# Altium schematic symbol library Microchip PIC12.SchLib: 457 symbols (part 13 of 15)
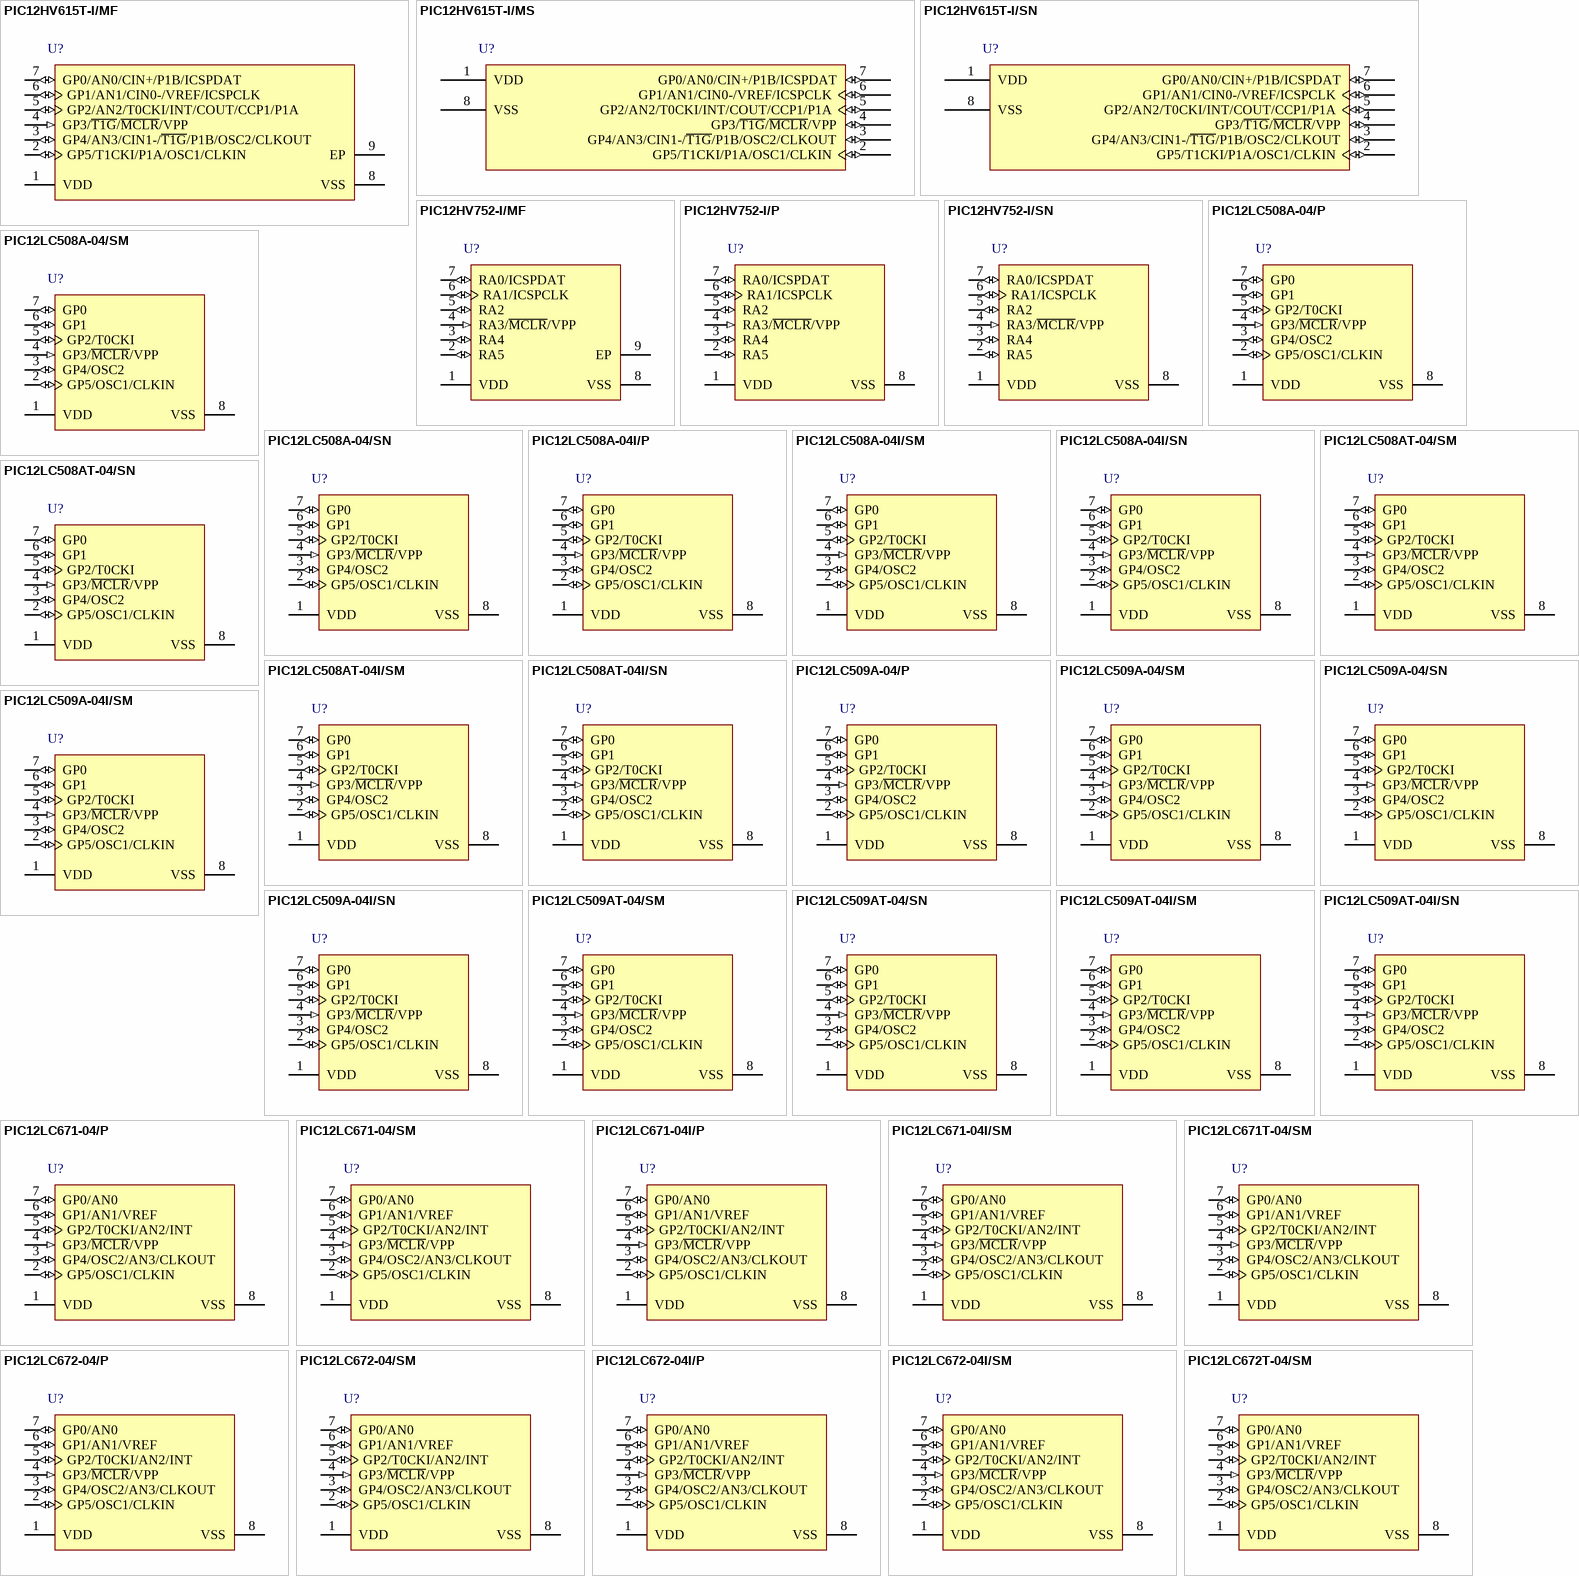
[diagram p27: symbols PIC12HV615T-I/MF to PIC12LC672T-04/SM]

## PIC12LC671T-04/SM
designator U?
8-Bit CMOS Microcontroller with A/D Converter and EEPROM Data Memory, 4 MHz, 5 I/O, 0 to 70 degC, 8-pin SOIC (SM8), Tape and Reel; Manufacturer: Microchip; PartNumber: PIC12LC671T-04/SM; # of A/D Channels: 4; Digital Communication: 0 -UART, 0 -A/E/USART, 0 -SPI, 0 -I2C; I/O Pins: 5; Internal Oscillator: 4 MHz; Memory Type: OTP; Operation Voltage Range: 2.5V - 5.5V; Packing: T/R; Program Memory KBytes: 1.75; Program Memory KWords: 1; RAM: 128; Timers: 1 - 8-bit; DatasheetVersion: Rev. C; PackageVersion: C04-056C, 12/2012; PackageReference: SOIC-SM8; PackageDescription: 8-Lead Plastic Small Outline, 5.26 x 5.25 mm Body, 1.27 mm Pitch; Supplier 1: Digi-Key; Supplier Part Number 1: PIC12LC671T-04/SM-ND; Supplier 2: Mouser; Supplier Part Number 2: 579-12LC671T-04/SM; Max. CPU Speed MHz: 4; Mounting Technology: Surface Mount; ComponentLink1Description: Datasheet; ComponentLink1URL: http://ww1.microchip.com/downloads/en/DeviceDoc/30561C.pdf; ComponentLink2Description: Package Specification; ComponentLink2URL: http://www.microchip.com/stellent/groups/techpub_sg/documents/packagingspec/en012702.pdf; ComponentLink3Description: URL Link1; ComponentLink3URL: Product URL:http://www.microchip.com/datasheet/PIC12C671
footprint MCHP-SOIC-SM8_N (SOIC, 8-Leads, Body 5.26x5.25mm, Pitch 1.27mm, IPC Medium Density)
footprint MCHP-SOIC-SM8_L (SOIC, 8-Leads, Body 5.26x5.25mm, Pitch 1.27mm, IPC High Density)
footprint MCHP-SOIC-SM8_M (SOIC, 8-Leads, Body 5.26x5.25mm, Pitch 1.27mm, IPC Low Density)
pins: 1 VDD (power) "Positive supply for logic and I/O pins.", 2 GP5/OSC1/CLKIN (io), 3 GP4/OSC2/AN3/CLKOUT (io), 4 GP3/~{MCLR}/VPP (in), 5 GP2/T0CKI/AN2/INT (io), 6 GP1/AN1/VREF (io), 7 GP0/AN0 (io), 8 VSS (power) "Ground reference for logic and I/O pins."

## PIC12LC672-04/P
designator U?
8-Bit CMOS Microcontroller with A/D Converter and EEPROM Data Memory, 4 MHz, 5 I/O, 0 to 70 degC, 8-pin PDIP (P8), Tube; Manufacturer: Microchip; PartNumber: PIC12LC672-04/P; # of A/D Channels: 4; Digital Communication: 0 -UART, 0 -A/E/USART, 0 -SPI, 0 -I2C; I/O Pins: 5; Internal Oscillator: 4 MHz; Memory Type: OTP; Operation Voltage Range: 2.5V - 5.5V; Program Memory KBytes: 3.5; Program Memory KWords: 2; RAM: 128; Timers: 1 - 8-bit; DatasheetVersion: Rev. C; PackageVersion: C04-018B, 12/2012; PackageReference: PDIP-P8; PackageDescription: 8-Lead Plastic Dual In-Line, Row Spacing 7.62 mm, 9.5 x 6.6 mm Body, 2.54 mm Pitch; Supplier 1: Digi-Key; Supplier Part Number 1: PIC12LC672-04/P-ND; Supplier 2: Mouser; Supplier Part Number 2: 579-PIC12LC672-04/P; Max. CPU Speed MHz: 4; Packing: TUBE; Mounting Technology: Through Hole; ComponentLink1Description: Datasheet; ComponentLink1URL: http://ww1.microchip.com/downloads/en/DeviceDoc/30561C.pdf; ComponentLink2Description: Package Specification; ComponentLink2URL: http://www.microchip.com/stellent/groups/techpub_sg/documents/packagingspec/en012702.pdf; ComponentLink3Description: URL Link1; ComponentLink3URL: Product URL:http://www.microchip.com/datasheet/PIC12C672
footprint MCHP-PDIP-P8 (PDIP, 8-Leads, Body 9.5x6.604mm, Pitch 2.54mm)
pins: 1 VDD (power) "Positive supply for logic and I/O pins.", 2 GP5/OSC1/CLKIN (io), 3 GP4/OSC2/AN3/CLKOUT (io), 4 GP3/~{MCLR}/VPP (in), 5 GP2/T0CKI/AN2/INT (io), 6 GP1/AN1/VREF (io), 7 GP0/AN0 (io), 8 VSS (power) "Ground reference for logic and I/O pins."

## PIC12LC672-04/SM
designator U?
8-Bit CMOS Microcontroller with A/D Converter and EEPROM Data Memory, 4 MHz, 5 I/O, 0 to 70 degC, 8-pin SOIC (SM8), Tube; Manufacturer: Microchip; PartNumber: PIC12LC672-04/SM; # of A/D Channels: 4; Digital Communication: 0 -UART, 0 -A/E/USART, 0 -SPI, 0 -I2C; I/O Pins: 5; Internal Oscillator: 4 MHz; Memory Type: OTP; Operation Voltage Range: 2.5V - 5.5V; Program Memory KBytes: 3.5; Program Memory KWords: 2; RAM: 128; Timers: 1 - 8-bit; DatasheetVersion: Rev. C; PackageVersion: C04-056C, 12/2012; PackageReference: SOIC-SM8; PackageDescription: 8-Lead Plastic Small Outline, 5.26 x 5.25 mm Body, 1.27 mm Pitch; Supplier 1: Digi-Key; Supplier Part Number 1: PIC12LC672-04/SM-ND; Supplier 2: Mouser; Supplier Part Number 2: 579-PIC12LC672-04/SM; Max. CPU Speed MHz: 4; Packing: TUBE; Mounting Technology: Surface Mount; ComponentLink1Description: Datasheet; ComponentLink1URL: http://ww1.microchip.com/downloads/en/DeviceDoc/30561C.pdf; ComponentLink2Description: Package Specification; ComponentLink2URL: http://www.microchip.com/stellent/groups/techpub_sg/documents/packagingspec/en012702.pdf; ComponentLink3Description: URL Link1; ComponentLink3URL: Product URL:http://www.microchip.com/datasheet/PIC12C672
footprint MCHP-SOIC-SM8_N (SOIC, 8-Leads, Body 5.26x5.25mm, Pitch 1.27mm, IPC Medium Density)
footprint MCHP-SOIC-SM8_L (SOIC, 8-Leads, Body 5.26x5.25mm, Pitch 1.27mm, IPC High Density)
footprint MCHP-SOIC-SM8_M (SOIC, 8-Leads, Body 5.26x5.25mm, Pitch 1.27mm, IPC Low Density)
pins: 1 VDD (power) "Positive supply for logic and I/O pins.", 2 GP5/OSC1/CLKIN (io), 3 GP4/OSC2/AN3/CLKOUT (io), 4 GP3/~{MCLR}/VPP (in), 5 GP2/T0CKI/AN2/INT (io), 6 GP1/AN1/VREF (io), 7 GP0/AN0 (io), 8 VSS (power) "Ground reference for logic and I/O pins."

## PIC12LC672-04I/P
designator U?
8-Bit CMOS Microcontroller with A/D Converter and EEPROM Data Memory, 4 MHz, 5 I/O, -40 to 85 degC, 8-pin PDIP (P8), Tube; Manufacturer: Microchip; PartNumber: PIC12LC672-04I/P; # of A/D Channels: 4; Digital Communication: 0 -UART, 0 -A/E/USART, 0 -SPI, 0 -I2C; I/O Pins: 5; Internal Oscillator: 4 MHz; Memory Type: OTP; Operation Voltage Range: 2.5V - 5.5V; Program Memory KBytes: 3.5; Program Memory KWords: 2; RAM: 128; Timers: 1 - 8-bit; DatasheetVersion: Rev. C; PackageVersion: C04-018B, 12/2012; PackageReference: PDIP-P8; PackageDescription: 8-Lead Plastic Dual In-Line, Row Spacing 7.62 mm, 9.5 x 6.6 mm Body, 2.54 mm Pitch; Supplier 1: Digi-Key; Supplier Part Number 1: PIC12LC672-04I/P-ND; Supplier 2: Mouser; Supplier Part Number 2: 579-PIC12LC672-04I/P; Max. CPU Speed MHz: 4; Packing: TUBE; Mounting Technology: Through Hole; ComponentLink1Description: Datasheet; ComponentLink1URL: http://ww1.microchip.com/downloads/en/DeviceDoc/30561C.pdf; ComponentLink2Description: Package Specification; ComponentLink2URL: http://www.microchip.com/stellent/groups/techpub_sg/documents/packagingspec/en012702.pdf; ComponentLink3Description: URL Link1; ComponentLink3URL: Product URL:http://www.microchip.com/datasheet/PIC12C672
footprint MCHP-PDIP-P8 (PDIP, 8-Leads, Body 9.5x6.604mm, Pitch 2.54mm)
pins: 1 VDD (power) "Positive supply for logic and I/O pins.", 2 GP5/OSC1/CLKIN (io), 3 GP4/OSC2/AN3/CLKOUT (io), 4 GP3/~{MCLR}/VPP (in), 5 GP2/T0CKI/AN2/INT (io), 6 GP1/AN1/VREF (io), 7 GP0/AN0 (io), 8 VSS (power) "Ground reference for logic and I/O pins."

## PIC12LC672-04I/SM
designator U?
8-Bit CMOS Microcontroller with A/D Converter and EEPROM Data Memory, 4 MHz, 5 I/O, -40 to 85 degC, 8-pin SOIC (SM8), Tube; Manufacturer: Microchip; PartNumber: PIC12LC672-04I/SM; # of A/D Channels: 4; Digital Communication: 0 -UART, 0 -A/E/USART, 0 -SPI, 0 -I2C; I/O Pins: 5; Internal Oscillator: 4 MHz; Memory Type: OTP; Operation Voltage Range: 2.5V - 5.5V; Program Memory KBytes: 3.5; Program Memory KWords: 2; RAM: 128; Timers: 1 - 8-bit; DatasheetVersion: Rev. C; PackageVersion: C04-056C, 12/2012; PackageReference: SOIC-SM8; PackageDescription: 8-Lead Plastic Small Outline, 5.26 x 5.25 mm Body, 1.27 mm Pitch; Supplier 1: Digi-Key; Supplier Part Number 1: PIC12LC672-04I/SM-ND; Supplier 2: Farnell; Supplier Part Number 2: 1137341; Supplier 3: Mouser; Supplier Part Number 3: 579-12LC672-04I/SM; Max. CPU Speed MHz: 4; Packing: TUBE; Mounting Technology: Surface Mount; ComponentLink1Description: Datasheet; ComponentLink1URL: http://ww1.microchip.com/downloads/en/DeviceDoc/30561C.pdf; ComponentLink2Description: Package Specification; ComponentLink2URL: http://www.microchip.com/stellent/groups/techpub_sg/documents/packagingspec/en012702.pdf; ComponentLink3Description: URL Link1; ComponentLink3URL: Product URL:http://www.microchip.com/datasheet/PIC12C672
footprint MCHP-SOIC-SM8_N (SOIC, 8-Leads, Body 5.26x5.25mm, Pitch 1.27mm, IPC Medium Density)
footprint MCHP-SOIC-SM8_L (SOIC, 8-Leads, Body 5.26x5.25mm, Pitch 1.27mm, IPC High Density)
footprint MCHP-SOIC-SM8_M (SOIC, 8-Leads, Body 5.26x5.25mm, Pitch 1.27mm, IPC Low Density)
pins: 1 VDD (power) "Positive supply for logic and I/O pins.", 2 GP5/OSC1/CLKIN (io), 3 GP4/OSC2/AN3/CLKOUT (io), 4 GP3/~{MCLR}/VPP (in), 5 GP2/T0CKI/AN2/INT (io), 6 GP1/AN1/VREF (io), 7 GP0/AN0 (io), 8 VSS (power) "Ground reference for logic and I/O pins."

## PIC12LC672T-04/SM
designator U?
8-Bit CMOS Microcontroller with A/D Converter and EEPROM Data Memory, 4 MHz, 5 I/O, 0 to 70 degC, 8-pin SOIC (SM8), Tape and Reel; Manufacturer: Microchip; PartNumber: PIC12LC672T-04/SM; # of A/D Channels: 4; Digital Communication: 0 -UART, 0 -A/E/USART, 0 -SPI, 0 -I2C; I/O Pins: 5; Internal Oscillator: 4 MHz; Memory Type: OTP; Operation Voltage Range: 2.5V - 5.5V; Packing: T/R; Program Memory KBytes: 3.5; Program Memory KWords: 2; RAM: 128; Timers: 1 - 8-bit; DatasheetVersion: Rev. C; PackageVersion: C04-056C, 12/2012; PackageReference: SOIC-SM8; PackageDescription: 8-Lead Plastic Small Outline, 5.26 x 5.25 mm Body, 1.27 mm Pitch; Supplier 1: Digi-Key; Supplier Part Number 1: PIC12LC672T-04/SM-ND; Supplier 2: Mouser; Supplier Part Number 2: 579-12LC672T-04/SM; Max. CPU Speed MHz: 4; Mounting Technology: Surface Mount; ComponentLink1Description: Datasheet; ComponentLink1URL: http://ww1.microchip.com/downloads/en/DeviceDoc/30561C.pdf; ComponentLink2Description: Package Specification; ComponentLink2URL: http://www.microchip.com/stellent/groups/techpub_sg/documents/packagingspec/en012702.pdf; ComponentLink3Description: URL Link1; ComponentLink3URL: Product URL:http://www.microchip.com/datasheet/PIC12C672
footprint MCHP-SOIC-SM8_N (SOIC, 8-Leads, Body 5.26x5.25mm, Pitch 1.27mm, IPC Medium Density)
footprint MCHP-SOIC-SM8_L (SOIC, 8-Leads, Body 5.26x5.25mm, Pitch 1.27mm, IPC High Density)
footprint MCHP-SOIC-SM8_M (SOIC, 8-Leads, Body 5.26x5.25mm, Pitch 1.27mm, IPC Low Density)
pins: 1 VDD (power) "Positive supply for logic and I/O pins.", 2 GP5/OSC1/CLKIN (io), 3 GP4/OSC2/AN3/CLKOUT (io), 4 GP3/~{MCLR}/VPP (in), 5 GP2/T0CKI/AN2/INT (io), 6 GP1/AN1/VREF (io), 7 GP0/AN0 (io), 8 VSS (power) "Ground reference for logic and I/O pins."

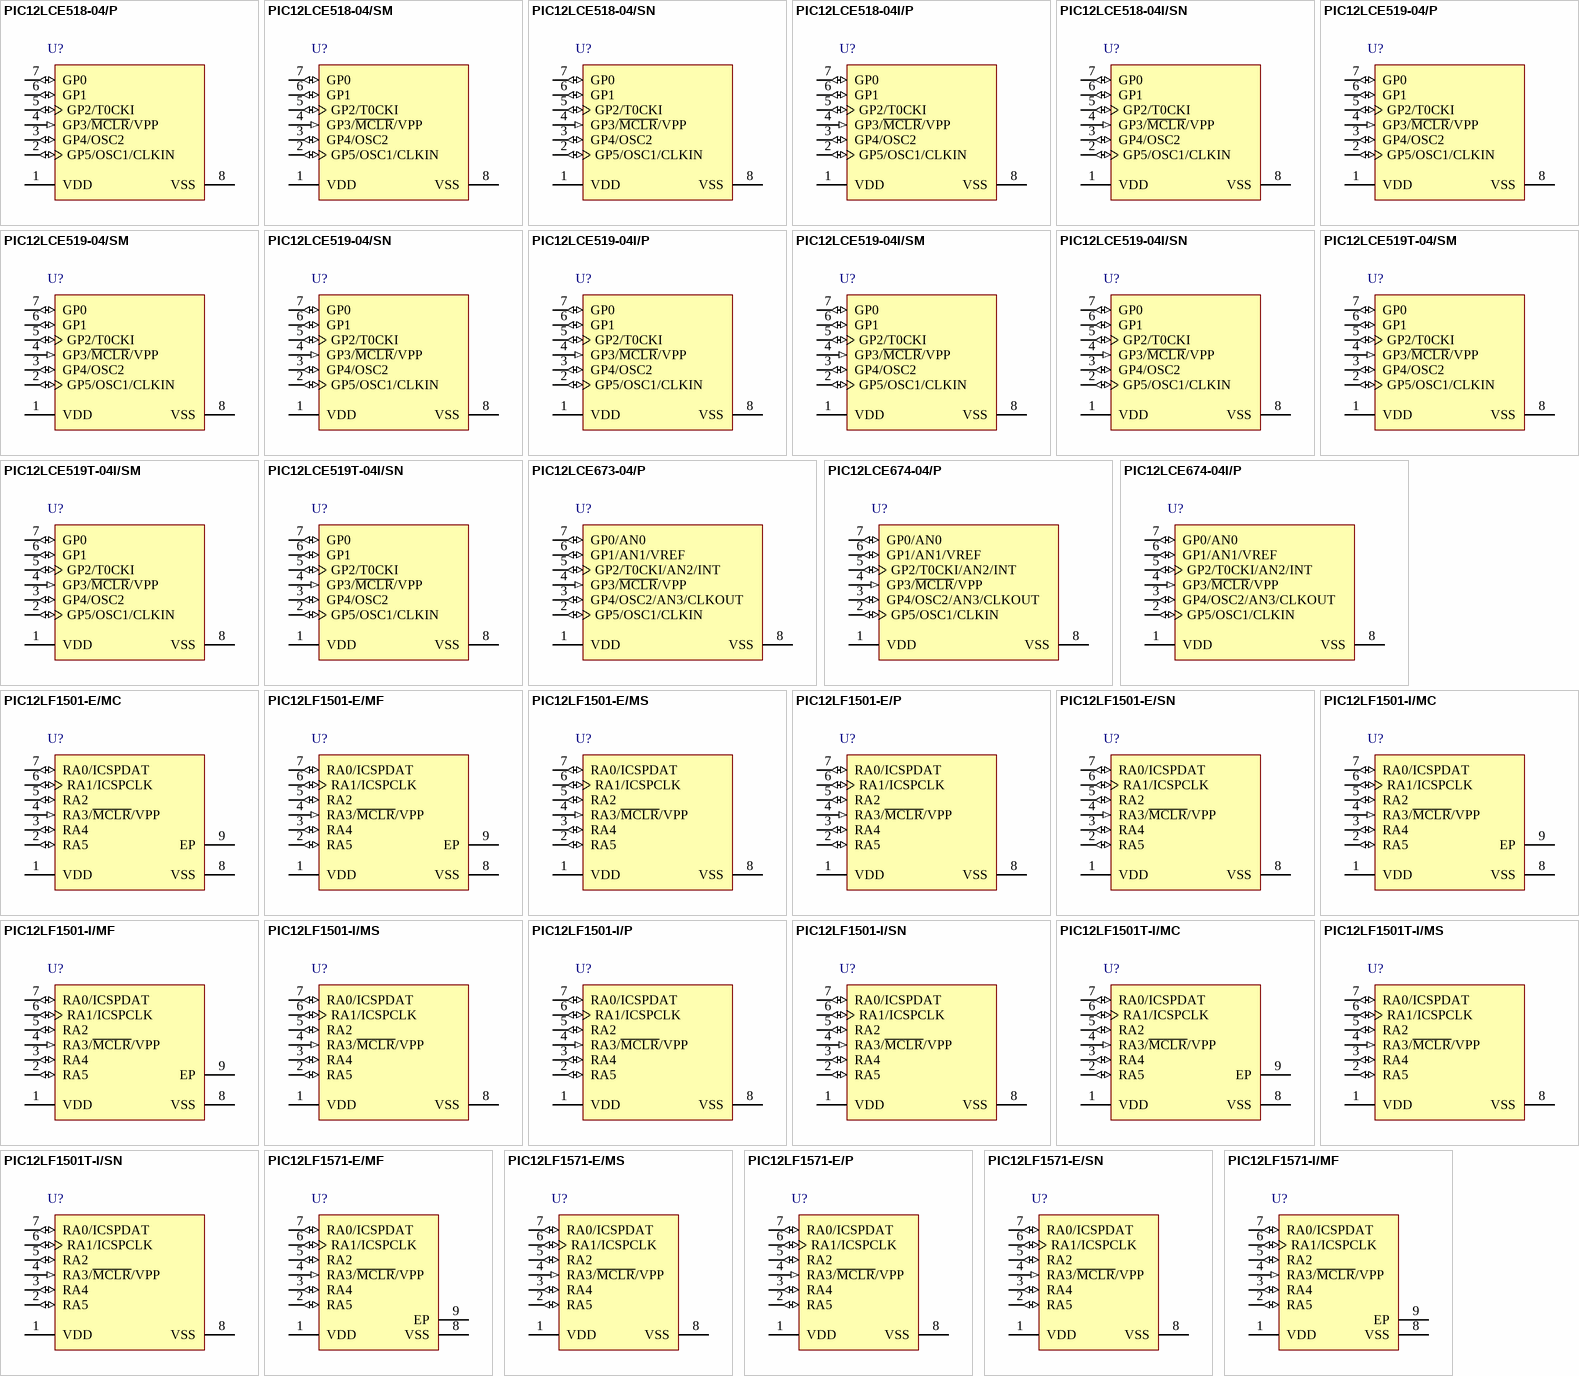
[diagram p13: symbols PIC12LCE518-04/P to PIC12LF1571-I/MF]

## PIC12LCE518-04/P
designator U?
8-Bit CMOS Microcontroller, 4 MHz, 5 I/O, 0 to 70 degC, 8-pin PDIP (P8), Tube; Manufacturer: Microchip; PartNumber: PIC12LCE518-04/P; Digital Communication: 0 -UART, 0 -A/E/USART, 0 -SPI, 0 -I2C; EEPROM Data Memory (bytes): 16; I/O Pins: 5; Internal Oscillator: 4 MHz; Max. CPU Speed MHz: 4; Memory Type: OTP; Operation Voltage Range: 2.5V - 5.5V; Program Memory KBytes: 0.75; Program Memory KWords: 0.5; RAM: 25; Timers: 1 - 8-bit; DatasheetVersion: Rev. E; PackageVersion: C04-018B, 12/2012; PackageReference: PDIP-P8; PackageDescription: 8-Lead Plastic Dual In-Line, Row Spacing 7.62 mm, 9.5 x 6.6 mm Body, 2.54 mm Pitch; Supplier 1: Digi-Key; Supplier Part Number 1: PIC12LCE518-04/P-ND; Supplier 2: Mouser; Supplier Part Number 2: 579-PIC12LCE518-04/P; Packing: TUBE; Mounting Technology: Through Hole; ComponentLink1Description: Datasheet; ComponentLink1URL: http://ww1.microchip.com/downloads/en/DeviceDoc/40139e.pdf; ComponentLink2Description: Package Specification; ComponentLink2URL: http://www.microchip.com/stellent/groups/techpub_sg/documents/packagingspec/en012702.pdf; ComponentLink3Description: URL Link1; ComponentLink3URL: Product URL:http://www.microchip.com/datasheet/PIC12CE518
footprint MCHP-PDIP-P8 (PDIP, 8-Leads, Body 9.5x6.604mm, Pitch 2.54mm)
pins: 1 VDD (power) "Positive supply for logic and I/O pins", 2 GP5/OSC1/CLKIN (io), 3 GP4/OSC2 (io), 4 GP3/~{MCLR}/VPP (in), 5 GP2/T0CKI (io), 6 GP1 (io) "Bi-directional I/O port/ serial programming clock. Can be software programmed for internal weak pull-up and wake-up from SLEEP on pin change. This buffer is a Schmitt Trigger input when used in serial programming mode.", 7 GP0 (io) "Bi-directional I/O port/ serial programming data. Can be software programmed for internal weak pull-up and wake-up from SLEEP on pin change. This buffer is a Schmitt Trigger input when used in serial programming mode.", 8 VSS (power) "Ground reference for logic and I/O pins"

## PIC12LCE518-04/SM
designator U?
8-Bit CMOS Microcontroller, 4 MHz, 5 I/O, 0 to 70 degC, 8-pin SOIC (SM8), Tube; Manufacturer: Microchip; PartNumber: PIC12LCE518-04/SM; Digital Communication: 0 -UART, 0 -A/E/USART, 0 -SPI, 0 -I2C; EEPROM Data Memory (bytes): 16; I/O Pins: 5; Internal Oscillator: 4 MHz; Max. CPU Speed MHz: 4; Memory Type: OTP; Operation Voltage Range: 2.5V - 5.5V; Program Memory KBytes: 0.75; Program Memory KWords: 0.5; RAM: 25; Timers: 1 - 8-bit; DatasheetVersion: Rev. E; PackageVersion: C04-056C, 12/2012; PackageReference: SOIC-SM8; PackageDescription: 8-Lead Plastic Small Outline, 5.26 x 5.25 mm Body, 1.27 mm Pitch; Supplier 1: Digi-Key; Supplier Part Number 1: PIC12LCE518-04/SM-ND; Supplier 2: Mouser; Supplier Part Number 2: 579-12LCE518-04/SM; Packing: TUBE; Mounting Technology: Surface Mount; ComponentLink1Description: Datasheet; ComponentLink1URL: http://ww1.microchip.com/downloads/en/DeviceDoc/40139e.pdf; ComponentLink2Description: Package Specification; ComponentLink2URL: http://www.microchip.com/stellent/groups/techpub_sg/documents/packagingspec/en012702.pdf; ComponentLink3Description: URL Link1; ComponentLink3URL: Product URL:http://www.microchip.com/datasheet/PIC12CE518
footprint MCHP-SOIC-SM8_N (SOIC, 8-Leads, Body 5.26x5.25mm, Pitch 1.27mm, IPC Medium Density)
footprint MCHP-SOIC-SM8_L (SOIC, 8-Leads, Body 5.26x5.25mm, Pitch 1.27mm, IPC High Density)
footprint MCHP-SOIC-SM8_M (SOIC, 8-Leads, Body 5.26x5.25mm, Pitch 1.27mm, IPC Low Density)
pins: 1 VDD (power) "Positive supply for logic and I/O pins", 2 GP5/OSC1/CLKIN (io), 3 GP4/OSC2 (io), 4 GP3/~{MCLR}/VPP (in), 5 GP2/T0CKI (io), 6 GP1 (io) "Bi-directional I/O port/ serial programming clock. Can be software programmed for internal weak pull-up and wake-up from SLEEP on pin change. This buffer is a Schmitt Trigger input when used in serial programming mode.", 7 GP0 (io) "Bi-directional I/O port/ serial programming data. Can be software programmed for internal weak pull-up and wake-up from SLEEP on pin change. This buffer is a Schmitt Trigger input when used in serial programming mode.", 8 VSS (power) "Ground reference for logic and I/O pins"

## PIC12LCE518-04/SN
designator U?
8-Bit CMOS Microcontroller, 4 MHz, 5 I/O, 0 to 70 degC, 8-pin SOIC (SN8), Tube; Manufacturer: Microchip; PartNumber: PIC12LCE518-04/SN; Digital Communication: 0 -UART, 0 -A/E/USART, 0 -SPI, 0 -I2C; EEPROM Data Memory (bytes): 16; I/O Pins: 5; Internal Oscillator: 4 MHz; Max. CPU Speed MHz: 4; Memory Type: OTP; Operation Voltage Range: 2.5V - 5.5V; Program Memory KBytes: 0.75; Program Memory KWords: 0.5; RAM: 25; Timers: 1 - 8-bit; DatasheetVersion: Rev. E; PackageVersion: C04-057C, 12/2012; PackageReference: SOIC-SN8; PackageDescription: 8-Lead Plastic Small Outline, 4.9 x 3.9 mm Body, 1.27 mm Pitch; Supplier 1: Digi-Key; Supplier Part Number 1: PIC12LCE518-04/SN-ND; Supplier 2: Mouser; Supplier Part Number 2: 579-12LCE518-04/SN; Packing: TUBE; Mounting Technology: Surface Mount; ComponentLink1Description: Datasheet; ComponentLink1URL: http://ww1.microchip.com/downloads/en/DeviceDoc/40139e.pdf; ComponentLink2Description: Package Specification; ComponentLink2URL: http://www.microchip.com/stellent/groups/techpub_sg/documents/packagingspec/en012702.pdf; ComponentLink3Description: URL Link1; ComponentLink3URL: Product URL:http://www.microchip.com/datasheet/PIC12CE518
footprint MCHP-SOIC-SN8_N (SOIC, 8-Leads, Body 4.9x3.9mm, Pitch 1.27mm, IPC Medium Density)
footprint MCHP-SOIC-SN8_L (SOIC, 8-Leads, Body 4.9x3.9mm, Pitch 1.27mm, IPC High Density)
footprint MCHP-SOIC-SN8_M (SOIC, 8-Leads, Body 4.9x3.9mm, Pitch 1.27mm, IPC Low Density)
pins: 1 VDD (power) "Positive supply for logic and I/O pins", 2 GP5/OSC1/CLKIN (io), 3 GP4/OSC2 (io), 4 GP3/~{MCLR}/VPP (in), 5 GP2/T0CKI (io), 6 GP1 (io) "Bi-directional I/O port/ serial programming clock. Can be software programmed for internal weak pull-up and wake-up from SLEEP on pin change. This buffer is a Schmitt Trigger input when used in serial programming mode.", 7 GP0 (io) "Bi-directional I/O port/ serial programming data. Can be software programmed for internal weak pull-up and wake-up from SLEEP on pin change. This buffer is a Schmitt Trigger input when used in serial programming mode.", 8 VSS (power) "Ground reference for logic and I/O pins"

## PIC12LCE518-04I/P
designator U?
8-Bit CMOS Microcontroller, 4 MHz, 5 I/O, -40 to 85 degC, 8-pin PDIP (P8), Tube; Manufacturer: Microchip; PartNumber: PIC12LCE518-04I/P; Digital Communication: 0 -UART, 0 -A/E/USART, 0 -SPI, 0 -I2C; EEPROM Data Memory (bytes): 16; I/O Pins: 5; Internal Oscillator: 4 MHz; Max. CPU Speed MHz: 4; Memory Type: OTP; Operation Voltage Range: 2.5V - 5.5V; Program Memory KBytes: 0.75; Program Memory KWords: 0.5; RAM: 25; Timers: 1 - 8-bit; DatasheetVersion: Rev. E; PackageVersion: C04-018B, 12/2012; PackageReference: PDIP-P8; PackageDescription: 8-Lead Plastic Dual In-Line, Row Spacing 7.62 mm, 9.5 x 6.6 mm Body, 2.54 mm Pitch; Supplier 1: Digi-Key; Supplier Part Number 1: PIC12LCE518-04I/P-ND; Supplier 2: Mouser; Supplier Part Number 2: 579-12LCE518-04I/P; Packing: TUBE; Mounting Technology: Through Hole; ComponentLink1Description: Datasheet; ComponentLink1URL: http://ww1.microchip.com/downloads/en/DeviceDoc/40139e.pdf; ComponentLink2Description: Package Specification; ComponentLink2URL: http://www.microchip.com/stellent/groups/techpub_sg/documents/packagingspec/en012702.pdf; ComponentLink3Description: URL Link1; ComponentLink3URL: Product URL:http://www.microchip.com/datasheet/PIC12CE518
footprint MCHP-PDIP-P8 (PDIP, 8-Leads, Body 9.5x6.604mm, Pitch 2.54mm)
pins: 1 VDD (power) "Positive supply for logic and I/O pins", 2 GP5/OSC1/CLKIN (io), 3 GP4/OSC2 (io), 4 GP3/~{MCLR}/VPP (in), 5 GP2/T0CKI (io), 6 GP1 (io) "Bi-directional I/O port/ serial programming clock. Can be software programmed for internal weak pull-up and wake-up from SLEEP on pin change. This buffer is a Schmitt Trigger input when used in serial programming mode.", 7 GP0 (io) "Bi-directional I/O port/ serial programming data. Can be software programmed for internal weak pull-up and wake-up from SLEEP on pin change. This buffer is a Schmitt Trigger input when used in serial programming mode.", 8 VSS (power) "Ground reference for logic and I/O pins"

## PIC12LCE518-04I/SN
designator U?
8-Bit CMOS Microcontroller, 4 MHz, 5 I/O, -40 to 85 degC, 8-pin SOIC (SN8), Tube; Manufacturer: Microchip; PartNumber: PIC12LCE518-04I/SN; Digital Communication: 0 -UART, 0 -A/E/USART, 0 -SPI, 0 -I2C; EEPROM Data Memory (bytes): 16; I/O Pins: 5; Internal Oscillator: 4 MHz; Max. CPU Speed MHz: 4; Memory Type: OTP; Operation Voltage Range: 2.5V - 5.5V; Program Memory KBytes: 0.75; Program Memory KWords: 0.5; RAM: 25; Timers: 1 - 8-bit; DatasheetVersion: Rev. E; PackageVersion: C04-057C, 12/2012; PackageReference: SOIC-SN8; PackageDescription: 8-Lead Plastic Small Outline, 4.9 x 3.9 mm Body, 1.27 mm Pitch; Supplier 1: Digi-Key; Supplier Part Number 1: PIC12LCE518-04ISN-ND; Supplier 2: Mouser; Supplier Part Number 2: 579-12LCE518-04I/SN; Packing: TUBE; Mounting Technology: Surface Mount; ComponentLink1Description: Datasheet; ComponentLink1URL: http://ww1.microchip.com/downloads/en/DeviceDoc/40139e.pdf; ComponentLink2Description: Package Specification; ComponentLink2URL: http://www.microchip.com/stellent/groups/techpub_sg/documents/packagingspec/en012702.pdf; ComponentLink3Description: URL Link1; ComponentLink3URL: Product URL:http://www.microchip.com/datasheet/PIC12CE518
footprint MCHP-SOIC-SN8_N (SOIC, 8-Leads, Body 4.9x3.9mm, Pitch 1.27mm, IPC Medium Density)
footprint MCHP-SOIC-SN8_L (SOIC, 8-Leads, Body 4.9x3.9mm, Pitch 1.27mm, IPC High Density)
footprint MCHP-SOIC-SN8_M (SOIC, 8-Leads, Body 4.9x3.9mm, Pitch 1.27mm, IPC Low Density)
pins: 1 VDD (power) "Positive supply for logic and I/O pins", 2 GP5/OSC1/CLKIN (io), 3 GP4/OSC2 (io), 4 GP3/~{MCLR}/VPP (in), 5 GP2/T0CKI (io), 6 GP1 (io) "Bi-directional I/O port/ serial programming clock. Can be software programmed for internal weak pull-up and wake-up from SLEEP on pin change. This buffer is a Schmitt Trigger input when used in serial programming mode.", 7 GP0 (io) "Bi-directional I/O port/ serial programming data. Can be software programmed for internal weak pull-up and wake-up from SLEEP on pin change. This buffer is a Schmitt Trigger input when used in serial programming mode.", 8 VSS (power) "Ground reference for logic and I/O pins"

## PIC12LCE519-04/P
designator U?
8-Bit CMOS Microcontroller, 4 MHz, 5 I/O, 0 to 70 degC, 8-pin PDIP (P8), Tube; Manufacturer: Microchip; PartNumber: PIC12LCE519-04/P; Digital Communication: 0 -UART, 0 -A/E/USART, 0 -SPI, 0 -I2C; EEPROM Data Memory (bytes): 16; I/O Pins: 5; Max. CPU Speed MHz: 4; Memory Type: OTP; Operation Voltage Range: 2.5V - 5.5V; Program Memory KBytes: 1.5; Program Memory KWords: 1; RAM: 41; Timers: 1 - 8-bit; DatasheetVersion: Rev. E; PackageVersion: C04-018B, 12/2012; PackageReference: PDIP-P8; PackageDescription: 8-Lead Plastic Dual In-Line, Row Spacing 7.62 mm, 9.5 x 6.6 mm Body, 2.54 mm Pitch; Supplier 1: Digi-Key; Supplier Part Number 1: PIC12LCE519-04/P-ND; Supplier 2: Mouser; Supplier Part Number 2: 579-PIC12LCE519-04/P; Packing: TUBE; Mounting Technology: Through Hole; ComponentLink1Description: Datasheet; ComponentLink1URL: http://ww1.microchip.com/downloads/en/DeviceDoc/40139e.pdf; ComponentLink2Description: Package Specification; ComponentLink2URL: http://www.microchip.com/stellent/groups/techpub_sg/documents/packagingspec/en012702.pdf; ComponentLink3Description: URL Link1; ComponentLink3URL: Product URL:http://www.microchip.com/datasheet/PIC12CE519
footprint MCHP-PDIP-P8 (PDIP, 8-Leads, Body 9.5x6.604mm, Pitch 2.54mm)
pins: 1 VDD (power) "Positive supply for logic and I/O pins", 2 GP5/OSC1/CLKIN (io), 3 GP4/OSC2 (io), 4 GP3/~{MCLR}/VPP (in), 5 GP2/T0CKI (io), 6 GP1 (io) "Bi-directional I/O port/ serial programming clock. Can be software programmed for internal weak pull-up and wake-up from SLEEP on pin change. This buffer is a Schmitt Trigger input when used in serial programming mode.", 7 GP0 (io) "Bi-directional I/O port/ serial programming data. Can be software programmed for internal weak pull-up and wake-up from SLEEP on pin change. This buffer is a Schmitt Trigger input when used in serial programming mode.", 8 VSS (power) "Ground reference for logic and I/O pins"

## PIC12LCE519-04/SM
designator U?
8-Bit CMOS Microcontroller, 4 MHz, 5 I/O, 0 to 70 degC, 8-pin SOIC (SM8), Tube; Manufacturer: Microchip; PartNumber: PIC12LCE519-04/SM; Digital Communication: 0 -UART, 0 -A/E/USART, 0 -SPI, 0 -I2C; EEPROM Data Memory (bytes): 16; I/O Pins: 5; Max. CPU Speed MHz: 4; Memory Type: OTP; Operation Voltage Range: 2.5V - 5.5V; Program Memory KBytes: 1.5; Program Memory KWords: 1; RAM: 41; Timers: 1 - 8-bit; DatasheetVersion: Rev. E; PackageVersion: C04-056C, 12/2012; PackageReference: SOIC-SM8; PackageDescription: 8-Lead Plastic Small Outline, 5.26 x 5.25 mm Body, 1.27 mm Pitch; Supplier 1: Digi-Key; Supplier Part Number 1: PIC12LCE519-04/SM-ND; Supplier 2: Mouser; Supplier Part Number 2: 579-12LCE519-04/SM; Packing: TUBE; Mounting Technology: Surface Mount; ComponentLink1Description: Datasheet; ComponentLink1URL: http://ww1.microchip.com/downloads/en/DeviceDoc/40139e.pdf; ComponentLink2Description: Package Specification; ComponentLink2URL: http://www.microchip.com/stellent/groups/techpub_sg/documents/packagingspec/en012702.pdf; ComponentLink3Description: URL Link1; ComponentLink3URL: Product URL:http://www.microchip.com/datasheet/PIC12CE519
footprint MCHP-SOIC-SM8_N (SOIC, 8-Leads, Body 5.26x5.25mm, Pitch 1.27mm, IPC Medium Density)
footprint MCHP-SOIC-SM8_L (SOIC, 8-Leads, Body 5.26x5.25mm, Pitch 1.27mm, IPC High Density)
footprint MCHP-SOIC-SM8_M (SOIC, 8-Leads, Body 5.26x5.25mm, Pitch 1.27mm, IPC Low Density)
pins: 1 VDD (power) "Positive supply for logic and I/O pins", 2 GP5/OSC1/CLKIN (io), 3 GP4/OSC2 (io), 4 GP3/~{MCLR}/VPP (in), 5 GP2/T0CKI (io), 6 GP1 (io) "Bi-directional I/O port/ serial programming clock. Can be software programmed for internal weak pull-up and wake-up from SLEEP on pin change. This buffer is a Schmitt Trigger input when used in serial programming mode.", 7 GP0 (io) "Bi-directional I/O port/ serial programming data. Can be software programmed for internal weak pull-up and wake-up from SLEEP on pin change. This buffer is a Schmitt Trigger input when used in serial programming mode.", 8 VSS (power) "Ground reference for logic and I/O pins"

## PIC12LCE519-04/SN
designator U?
8-Bit CMOS Microcontroller, 4 MHz, 5 I/O, 0 to 70 degC, 8-pin SOIC (SN8), Tube; Manufacturer: Microchip; PartNumber: PIC12LCE519-04/SN; Digital Communication: 0 -UART, 0 -A/E/USART, 0 -SPI, 0 -I2C; EEPROM Data Memory (bytes): 16; I/O Pins: 5; Max. CPU Speed MHz: 4; Memory Type: OTP; Operation Voltage Range: 2.5V - 5.5V; Program Memory KBytes: 1.5; Program Memory KWords: 1; RAM: 41; Timers: 1 - 8-bit; DatasheetVersion: Rev. E; PackageVersion: C04-057C, 12/2012; PackageReference: SOIC-SN8; PackageDescription: 8-Lead Plastic Small Outline, 4.9 x 3.9 mm Body, 1.27 mm Pitch; Supplier 1: Digi-Key; Supplier Part Number 1: PIC12LCE519-04/SN-ND; Supplier 2: Mouser; Supplier Part Number 2: 579-12LCE519-04/SN; Packing: TUBE; Mounting Technology: Surface Mount; ComponentLink1Description: Datasheet; ComponentLink1URL: http://ww1.microchip.com/downloads/en/DeviceDoc/40139e.pdf; ComponentLink2Description: Package Specification; ComponentLink2URL: http://www.microchip.com/stellent/groups/techpub_sg/documents/packagingspec/en012702.pdf; ComponentLink3Description: URL Link1; ComponentLink3URL: Product URL:http://www.microchip.com/datasheet/PIC12CE519
footprint MCHP-SOIC-SN8_N (SOIC, 8-Leads, Body 4.9x3.9mm, Pitch 1.27mm, IPC Medium Density)
footprint MCHP-SOIC-SN8_L (SOIC, 8-Leads, Body 4.9x3.9mm, Pitch 1.27mm, IPC High Density)
footprint MCHP-SOIC-SN8_M (SOIC, 8-Leads, Body 4.9x3.9mm, Pitch 1.27mm, IPC Low Density)
pins: 1 VDD (power) "Positive supply for logic and I/O pins", 2 GP5/OSC1/CLKIN (io), 3 GP4/OSC2 (io), 4 GP3/~{MCLR}/VPP (in), 5 GP2/T0CKI (io), 6 GP1 (io) "Bi-directional I/O port/ serial programming clock. Can be software programmed for internal weak pull-up and wake-up from SLEEP on pin change. This buffer is a Schmitt Trigger input when used in serial programming mode.", 7 GP0 (io) "Bi-directional I/O port/ serial programming data. Can be software programmed for internal weak pull-up and wake-up from SLEEP on pin change. This buffer is a Schmitt Trigger input when used in serial programming mode.", 8 VSS (power) "Ground reference for logic and I/O pins"

## PIC12LCE519-04I/P
designator U?
8-Bit CMOS Microcontroller, 4 MHz, 5 I/O, -40 to 85 degC, 8-pin PDIP (P8), Tube; Manufacturer: Microchip; PartNumber: PIC12LCE519-04I/P; Digital Communication: 0 -UART, 0 -A/E/USART, 0 -SPI, 0 -I2C; EEPROM Data Memory (bytes): 16; I/O Pins: 5; Max. CPU Speed MHz: 4; Memory Type: OTP; Operation Voltage Range: 2.5V - 5.5V; Program Memory KBytes: 1.5; Program Memory KWords: 1; RAM: 41; Timers: 1 - 8-bit; DatasheetVersion: Rev. E; PackageVersion: C04-018B, 12/2012; PackageReference: PDIP-P8; PackageDescription: 8-Lead Plastic Dual In-Line, Row Spacing 7.62 mm, 9.5 x 6.6 mm Body, 2.54 mm Pitch; Supplier 1: Digi-Key; Supplier Part Number 1: PIC12LCE519-04I/P-ND; Supplier 2: Mouser; Supplier Part Number 2: 579-12LCE519-04I/P; Packing: TUBE; Mounting Technology: Through Hole; ComponentLink1Description: Datasheet; ComponentLink1URL: http://ww1.microchip.com/downloads/en/DeviceDoc/40139e.pdf; ComponentLink2Description: Package Specification; ComponentLink2URL: http://www.microchip.com/stellent/groups/techpub_sg/documents/packagingspec/en012702.pdf; ComponentLink3Description: URL Link1; ComponentLink3URL: Product URL:http://www.microchip.com/datasheet/PIC12CE519
footprint MCHP-PDIP-P8 (PDIP, 8-Leads, Body 9.5x6.604mm, Pitch 2.54mm)
pins: 1 VDD (power) "Positive supply for logic and I/O pins", 2 GP5/OSC1/CLKIN (io), 3 GP4/OSC2 (io), 4 GP3/~{MCLR}/VPP (in), 5 GP2/T0CKI (io), 6 GP1 (io) "Bi-directional I/O port/ serial programming clock. Can be software programmed for internal weak pull-up and wake-up from SLEEP on pin change. This buffer is a Schmitt Trigger input when used in serial programming mode.", 7 GP0 (io) "Bi-directional I/O port/ serial programming data. Can be software programmed for internal weak pull-up and wake-up from SLEEP on pin change. This buffer is a Schmitt Trigger input when used in serial programming mode.", 8 VSS (power) "Ground reference for logic and I/O pins"

## PIC12LCE519-04I/SM
designator U?
8-Bit CMOS Microcontroller, 4 MHz, 5 I/O, -40 to 85 degC, 8-pin SOIC (SM8), Tube; Manufacturer: Microchip; PartNumber: PIC12LCE519-04I/SM; Digital Communication: 0 -UART, 0 -A/E/USART, 0 -SPI, 0 -I2C; EEPROM Data Memory (bytes): 16; I/O Pins: 5; Max. CPU Speed MHz: 4; Memory Type: OTP; Operation Voltage Range: 2.5V - 5.5V; Program Memory KBytes: 1.5; Program Memory KWords: 1; RAM: 41; Timers: 1 - 8-bit; DatasheetVersion: Rev. E; PackageVersion: C04-056C, 12/2012; PackageReference: SOIC-SM8; PackageDescription: 8-Lead Plastic Small Outline, 5.26 x 5.25 mm Body, 1.27 mm Pitch; Supplier 1: Digi-Key; Supplier Part Number 1: PIC12LCE519-04ISM-ND; Supplier 2: Mouser; Supplier Part Number 2: 579-12LCE519-04I/SM; Packing: TUBE; Mounting Technology: Surface Mount; ComponentLink1Description: Datasheet; ComponentLink1URL: http://ww1.microchip.com/downloads/en/DeviceDoc/40139e.pdf; ComponentLink2Description: Package Specification; ComponentLink2URL: http://www.microchip.com/stellent/groups/techpub_sg/documents/packagingspec/en012702.pdf; ComponentLink3Description: URL Link1; ComponentLink3URL: Product URL:http://www.microchip.com/datasheet/PIC12CE519
footprint MCHP-SOIC-SM8_N (SOIC, 8-Leads, Body 5.26x5.25mm, Pitch 1.27mm, IPC Medium Density)
footprint MCHP-SOIC-SM8_L (SOIC, 8-Leads, Body 5.26x5.25mm, Pitch 1.27mm, IPC High Density)
footprint MCHP-SOIC-SM8_M (SOIC, 8-Leads, Body 5.26x5.25mm, Pitch 1.27mm, IPC Low Density)
pins: 1 VDD (power) "Positive supply for logic and I/O pins", 2 GP5/OSC1/CLKIN (io), 3 GP4/OSC2 (io), 4 GP3/~{MCLR}/VPP (in), 5 GP2/T0CKI (io), 6 GP1 (io) "Bi-directional I/O port/ serial programming clock. Can be software programmed for internal weak pull-up and wake-up from SLEEP on pin change. This buffer is a Schmitt Trigger input when used in serial programming mode.", 7 GP0 (io) "Bi-directional I/O port/ serial programming data. Can be software programmed for internal weak pull-up and wake-up from SLEEP on pin change. This buffer is a Schmitt Trigger input when used in serial programming mode.", 8 VSS (power) "Ground reference for logic and I/O pins"

## PIC12LCE519-04I/SN
designator U?
8-Bit CMOS Microcontroller, 4 MHz, 5 I/O, -40 to 85 degC, 8-pin SOIC (SN8), Tube; Manufacturer: Microchip; PartNumber: PIC12LCE519-04I/SN; Digital Communication: 0 -UART, 0 -A/E/USART, 0 -SPI, 0 -I2C; EEPROM Data Memory (bytes): 16; I/O Pins: 5; Max. CPU Speed MHz: 4; Memory Type: OTP; Operation Voltage Range: 2.5V - 5.5V; Program Memory KBytes: 1.5; Program Memory KWords: 1; RAM: 41; Timers: 1 - 8-bit; DatasheetVersion: Rev. E; PackageVersion: C04-057C, 12/2012; PackageReference: SOIC-SN8; PackageDescription: 8-Lead Plastic Small Outline, 4.9 x 3.9 mm Body, 1.27 mm Pitch; Supplier 1: Digi-Key; Supplier Part Number 1: PIC12LCE519-04ISN-ND; Supplier 2: Mouser; Supplier Part Number 2: 579-12LCE519-04I/SN; Packing: TUBE; Mounting Technology: Surface Mount; ComponentLink1Description: Datasheet; ComponentLink1URL: http://ww1.microchip.com/downloads/en/DeviceDoc/40139e.pdf; ComponentLink2Description: Package Specification; ComponentLink2URL: http://www.microchip.com/stellent/groups/techpub_sg/documents/packagingspec/en012702.pdf; ComponentLink3Description: URL Link1; ComponentLink3URL: Product URL:http://www.microchip.com/datasheet/PIC12CE519
footprint MCHP-SOIC-SN8_N (SOIC, 8-Leads, Body 4.9x3.9mm, Pitch 1.27mm, IPC Medium Density)
footprint MCHP-SOIC-SN8_L (SOIC, 8-Leads, Body 4.9x3.9mm, Pitch 1.27mm, IPC High Density)
footprint MCHP-SOIC-SN8_M (SOIC, 8-Leads, Body 4.9x3.9mm, Pitch 1.27mm, IPC Low Density)
pins: 1 VDD (power) "Positive supply for logic and I/O pins", 2 GP5/OSC1/CLKIN (io), 3 GP4/OSC2 (io), 4 GP3/~{MCLR}/VPP (in), 5 GP2/T0CKI (io), 6 GP1 (io) "Bi-directional I/O port/ serial programming clock. Can be software programmed for internal weak pull-up and wake-up from SLEEP on pin change. This buffer is a Schmitt Trigger input when used in serial programming mode.", 7 GP0 (io) "Bi-directional I/O port/ serial programming data. Can be software programmed for internal weak pull-up and wake-up from SLEEP on pin change. This buffer is a Schmitt Trigger input when used in serial programming mode.", 8 VSS (power) "Ground reference for logic and I/O pins"

## PIC12LCE519T-04/SM
designator U?
8-Bit CMOS Microcontroller, 4 MHz, 5 I/O, 0 to 70 degC, 8-pin SOIC (SM8), Tape and Reel; Manufacturer: Microchip; PartNumber: PIC12LCE519T-04/SM; Digital Communication: 0 -UART, 0 -A/E/USART, 0 -SPI, 0 -I2C; EEPROM Data Memory (bytes): 16; I/O Pins: 5; Max. CPU Speed MHz: 4; Memory Type: OTP; Operation Voltage Range: 2.5V - 5.5V; Packing: T/R; Program Memory KBytes: 1.5; Program Memory KWords: 1; RAM: 41; Timers: 1 - 8-bit; DatasheetVersion: Rev. E; PackageVersion: C04-056C, 12/2012; PackageReference: SOIC-SM8; PackageDescription: 8-Lead Plastic Small Outline, 5.26 x 5.25 mm Body, 1.27 mm Pitch; Supplier 1: Digi-Key; Supplier Part Number 1: PIC12LCE519T-04SM-ND; Supplier 2: Mouser; Supplier Part Number 2: 579-12LCE519T-04/SM; Mounting Technology: Surface Mount; ComponentLink1Description: Datasheet; ComponentLink1URL: http://ww1.microchip.com/downloads/en/DeviceDoc/40139e.pdf; ComponentLink2Description: Package Specification; ComponentLink2URL: http://www.microchip.com/stellent/groups/techpub_sg/documents/packagingspec/en012702.pdf; ComponentLink3Description: URL Link1; ComponentLink3URL: Product URL:http://www.microchip.com/datasheet/PIC12CE519
footprint MCHP-SOIC-SM8_N (SOIC, 8-Leads, Body 5.26x5.25mm, Pitch 1.27mm, IPC Medium Density)
footprint MCHP-SOIC-SM8_L (SOIC, 8-Leads, Body 5.26x5.25mm, Pitch 1.27mm, IPC High Density)
footprint MCHP-SOIC-SM8_M (SOIC, 8-Leads, Body 5.26x5.25mm, Pitch 1.27mm, IPC Low Density)
pins: 1 VDD (power) "Positive supply for logic and I/O pins", 2 GP5/OSC1/CLKIN (io), 3 GP4/OSC2 (io), 4 GP3/~{MCLR}/VPP (in), 5 GP2/T0CKI (io), 6 GP1 (io) "Bi-directional I/O port/ serial programming clock. Can be software programmed for internal weak pull-up and wake-up from SLEEP on pin change. This buffer is a Schmitt Trigger input when used in serial programming mode.", 7 GP0 (io) "Bi-directional I/O port/ serial programming data. Can be software programmed for internal weak pull-up and wake-up from SLEEP on pin change. This buffer is a Schmitt Trigger input when used in serial programming mode.", 8 VSS (power) "Ground reference for logic and I/O pins"

## PIC12LCE519T-04I/SM
designator U?
8-Bit CMOS Microcontroller, 4 MHz, 5 I/O, -40 to 85 degC, 8-pin SOIC (SM8), Tape and Reel; Manufacturer: Microchip; PartNumber: PIC12LCE519T-04I/SM; Digital Communication: 0 -UART, 0 -A/E/USART, 0 -SPI, 0 -I2C; EEPROM Data Memory (bytes): 16; I/O Pins: 5; Max. CPU Speed MHz: 4; Memory Type: OTP; Operation Voltage Range: 2.5V - 5.5V; Packing: T/R; Program Memory KBytes: 1.5; Program Memory KWords: 1; RAM: 41; Timers: 1 - 8-bit; DatasheetVersion: Rev. E; PackageVersion: C04-056C, 12/2012; PackageReference: SOIC-SM8; PackageDescription: 8-Lead Plastic Small Outline, 5.26 x 5.25 mm Body, 1.27 mm Pitch; Supplier 1: Digi-Key; Supplier Part Number 1: PIC12LCE519T04ISM-ND; Supplier 2: Mouser; Supplier Part Number 2: 579-12LCE519T-04I/SM; Mounting Technology: Surface Mount; ComponentLink1Description: Datasheet; ComponentLink1URL: http://ww1.microchip.com/downloads/en/DeviceDoc/40139e.pdf; ComponentLink2Description: Package Specification; ComponentLink2URL: http://www.microchip.com/stellent/groups/techpub_sg/documents/packagingspec/en012702.pdf; ComponentLink3Description: URL Link1; ComponentLink3URL: Product URL:http://www.microchip.com/datasheet/PIC12CE519
footprint MCHP-SOIC-SM8_N (SOIC, 8-Leads, Body 5.26x5.25mm, Pitch 1.27mm, IPC Medium Density)
footprint MCHP-SOIC-SM8_L (SOIC, 8-Leads, Body 5.26x5.25mm, Pitch 1.27mm, IPC High Density)
footprint MCHP-SOIC-SM8_M (SOIC, 8-Leads, Body 5.26x5.25mm, Pitch 1.27mm, IPC Low Density)
pins: 1 VDD (power) "Positive supply for logic and I/O pins", 2 GP5/OSC1/CLKIN (io), 3 GP4/OSC2 (io), 4 GP3/~{MCLR}/VPP (in), 5 GP2/T0CKI (io), 6 GP1 (io) "Bi-directional I/O port/ serial programming clock. Can be software programmed for internal weak pull-up and wake-up from SLEEP on pin change. This buffer is a Schmitt Trigger input when used in serial programming mode.", 7 GP0 (io) "Bi-directional I/O port/ serial programming data. Can be software programmed for internal weak pull-up and wake-up from SLEEP on pin change. This buffer is a Schmitt Trigger input when used in serial programming mode.", 8 VSS (power) "Ground reference for logic and I/O pins"

## PIC12LCE519T-04I/SN
designator U?
8-Bit CMOS Microcontroller, 4 MHz, 5 I/O, -40 to 85 degC, 8-pin SOIC (SN8), Tape and Reel; Manufacturer: Microchip; PartNumber: PIC12LCE519T-04I/SN; Digital Communication: 0 -UART, 0 -A/E/USART, 0 -SPI, 0 -I2C; EEPROM Data Memory (bytes): 16; I/O Pins: 5; Max. CPU Speed MHz: 4; Memory Type: OTP; Operation Voltage Range: 2.5V - 5.5V; Packing: T/R; Program Memory KBytes: 1.5; Program Memory KWords: 1; RAM: 41; Timers: 1 - 8-bit; DatasheetVersion: Rev. E; PackageVersion: C04-057C, 12/2012; PackageReference: SOIC-SN8; PackageDescription: 8-Lead Plastic Small Outline, 4.9 x 3.9 mm Body, 1.27 mm Pitch; Supplier 1: Digi-Key; Supplier Part Number 1: PIC12LCE519T04ISN-ND; Supplier 2: Mouser; Supplier Part Number 2: 579-12LCE519T-04I/SN; Mounting Technology: Surface Mount; ComponentLink1Description: Datasheet; ComponentLink1URL: http://ww1.microchip.com/downloads/en/DeviceDoc/40139e.pdf; ComponentLink2Description: Package Specification; ComponentLink2URL: http://www.microchip.com/stellent/groups/techpub_sg/documents/packagingspec/en012702.pdf; ComponentLink3Description: URL Link1; ComponentLink3URL: Product URL:http://www.microchip.com/datasheet/PIC12CE519
footprint MCHP-SOIC-SN8_N (SOIC, 8-Leads, Body 4.9x3.9mm, Pitch 1.27mm, IPC Medium Density)
footprint MCHP-SOIC-SN8_L (SOIC, 8-Leads, Body 4.9x3.9mm, Pitch 1.27mm, IPC High Density)
footprint MCHP-SOIC-SN8_M (SOIC, 8-Leads, Body 4.9x3.9mm, Pitch 1.27mm, IPC Low Density)
pins: 1 VDD (power) "Positive supply for logic and I/O pins", 2 GP5/OSC1/CLKIN (io), 3 GP4/OSC2 (io), 4 GP3/~{MCLR}/VPP (in), 5 GP2/T0CKI (io), 6 GP1 (io) "Bi-directional I/O port/ serial programming clock. Can be software programmed for internal weak pull-up and wake-up from SLEEP on pin change. This buffer is a Schmitt Trigger input when used in serial programming mode.", 7 GP0 (io) "Bi-directional I/O port/ serial programming data. Can be software programmed for internal weak pull-up and wake-up from SLEEP on pin change. This buffer is a Schmitt Trigger input when used in serial programming mode.", 8 VSS (power) "Ground reference for logic and I/O pins"

## PIC12LCE673-04/P
designator U?
8-Bit CMOS Microcontroller with A/D Converter and EEPROM Data Memory, 4 MHz, 5 I/O, 0 to 70 degC, 8-pin PDIP (P8), Tube; Manufacturer: Microchip; PartNumber: PIC12LCE673-04/P; # of A/D Channels: 4; Digital Communication: 0 -UART, 0 -A/E/USART, 0 -SPI, 0 -I2C; EEPROM Data Memory (bytes): 16; I/O Pins: 5; Internal Oscillator: 4 MHz; Memory Type: OTP; Operation Voltage Range: 2.5V - 5.5V; Program Memory KBytes: 1.75; Program Memory KWords: 1; RAM: 128; Timers: 1 - 8-bit, 0 - 16-bit, 0 - 32-bit; DatasheetVersion: Rev. C; PackageVersion: C04-018B, 12/2012; PackageReference: PDIP-P8; PackageDescription: 8-Lead Plastic Dual In-Line, Row Spacing 7.62 mm, 9.5 x 6.6 mm Body, 2.54 mm Pitch; Supplier 1: Digi-Key; Supplier Part Number 1: PIC12LCE673-04/P-ND; Supplier 2: Mouser; Supplier Part Number 2: 579-PIC12LCE673-04/P; Max. CPU Speed MHz: 4; Packing: TUBE; Mounting Technology: Through Hole; ComponentLink1Description: Datasheet; ComponentLink1URL: http://ww1.microchip.com/downloads/en/DeviceDoc/30561C.pdf; ComponentLink2Description: Package Specification; ComponentLink2URL: http://www.microchip.com/stellent/groups/techpub_sg/documents/packagingspec/en012702.pdf; ComponentLink3Description: URL Link1; ComponentLink3URL: Product URL:http://www.microchip.com/datasheet/PIC12CE673
footprint MCHP-PDIP-P8 (PDIP, 8-Leads, Body 9.5x6.604mm, Pitch 2.54mm)
pins: 1 VDD (power) "Positive supply for logic and I/O pins.", 2 GP5/OSC1/CLKIN (io), 3 GP4/OSC2/AN3/CLKOUT (io), 4 GP3/~{MCLR}/VPP (in), 5 GP2/T0CKI/AN2/INT (io), 6 GP1/AN1/VREF (io), 7 GP0/AN0 (io), 8 VSS (power) "Ground reference for logic and I/O pins."

## PIC12LCE674-04/P
designator U?
8-Bit CMOS Microcontroller with A/D Converter and EEPROM Data Memory, 4 MHz, 5 I/O, 0 to 70 degC, 8-pin PDIP (P8), Tube; Manufacturer: Microchip; PartNumber: PIC12LCE674-04/P; # of A/D Channels: 4; Digital Communication: 0 -UART, 0 -A/E/USART, 0 -SPI, 0 -I2C; EEPROM Data Memory (bytes): 16; I/O Pins: 5; Internal Oscillator: 4 MHz; Memory Type: OTP; Operation Voltage Range: 3V - 5.5V; Program Memory KBytes: 3.5; Program Memory KWords: 2; RAM: 128; Timers: 1 - 8-bit, 0 - 16-bit, 0 - 32-bit; DatasheetVersion: Rev. C; PackageVersion: C04-018B, 12/2012; PackageReference: PDIP-P8; PackageDescription: 8-Lead Plastic Dual In-Line, Row Spacing 7.62 mm, 9.5 x 6.6 mm Body, 2.54 mm Pitch; Supplier 1: Digi-Key; Supplier Part Number 1: PIC12LCE674-04/P-ND; Supplier 2: Mouser; Supplier Part Number 2: 579-PIC12LCE674-04/P; Max. CPU Speed MHz: 4; Packing: TUBE; Mounting Technology: Through Hole; ComponentLink1Description: Datasheet; ComponentLink1URL: http://ww1.microchip.com/downloads/en/DeviceDoc/30561C.pdf; ComponentLink2Description: Package Specification; ComponentLink2URL: http://www.microchip.com/stellent/groups/techpub_sg/documents/packagingspec/en012702.pdf; ComponentLink3Description: URL Link1; ComponentLink3URL: Product URL:http://www.microchip.com/datasheet/PIC12CE674
footprint MCHP-PDIP-P8 (PDIP, 8-Leads, Body 9.5x6.604mm, Pitch 2.54mm)
pins: 1 VDD (power) "Positive supply for logic and I/O pins.", 2 GP5/OSC1/CLKIN (io), 3 GP4/OSC2/AN3/CLKOUT (io), 4 GP3/~{MCLR}/VPP (in), 5 GP2/T0CKI/AN2/INT (io), 6 GP1/AN1/VREF (io), 7 GP0/AN0 (io), 8 VSS (power) "Ground reference for logic and I/O pins."

## PIC12LCE674-04I/P
designator U?
8-Bit CMOS Microcontroller with A/D Converter and EEPROM Data Memory, 4 MHz, 5 I/O, -40 to 85 degC, 8-pin PDIP (P8), Tube; Manufacturer: Microchip; PartNumber: PIC12LCE674-04I/P; # of A/D Channels: 4; Digital Communication: 0 -UART, 0 -A/E/USART, 0 -SPI, 0 -I2C; EEPROM Data Memory (bytes): 16; I/O Pins: 5; Internal Oscillator: 4 MHz; Memory Type: OTP; Operation Voltage Range: 2.5V - 5.5V; Program Memory KBytes: 3.5; Program Memory KWords: 2; RAM: 128; Timers: 1 - 8-bit, 0 - 16-bit, 0 - 32-bit; DatasheetVersion: Rev. C; PackageVersion: C04-018B, 12/2012; PackageReference: PDIP-P8; PackageDescription: 8-Lead Plastic Dual In-Line, Row Spacing 7.62 mm, 9.5 x 6.6 mm Body, 2.54 mm Pitch; Supplier 1: Digi-Key; Supplier Part Number 1: PIC12LCE674-04I/P-ND; Supplier 2: Mouser; Supplier Part Number 2: 579-12LCE674-04I/P; Max. CPU Speed MHz: 4; Packing: TUBE; Mounting Technology: Through Hole; ComponentLink1Description: Datasheet; ComponentLink1URL: http://ww1.microchip.com/downloads/en/DeviceDoc/30561C.pdf; ComponentLink2Description: Package Specification; ComponentLink2URL: http://www.microchip.com/stellent/groups/techpub_sg/documents/packagingspec/en012702.pdf; ComponentLink3Description: URL Link1; ComponentLink3URL: Product URL:http://www.microchip.com/datasheet/PIC12CE674
footprint MCHP-PDIP-P8 (PDIP, 8-Leads, Body 9.5x6.604mm, Pitch 2.54mm)
pins: 1 VDD (power) "Positive supply for logic and I/O pins.", 2 GP5/OSC1/CLKIN (io), 3 GP4/OSC2/AN3/CLKOUT (io), 4 GP3/~{MCLR}/VPP (in), 5 GP2/T0CKI/AN2/INT (io), 6 GP1/AN1/VREF (io), 7 GP0/AN0 (io), 8 VSS (power) "Ground reference for logic and I/O pins."

## PIC12LF1501-E/MC
designator U?
Flash, 8-Bit Microcontroller, 20 MHz, 5 I/O, -40 to 125 degC, 8-pin DFN (MC8), Tube; Manufacturer: Microchip; PartNumber: PIC12LF1501-E/MC; # of A/D Channels: 4; I/O Pins: 5; Internal Oscillator: 16 MHz, 31 kHz; Max. CPU Speed MHz: 20; Operation Voltage Range: 1.8V - 3.6V; Program Memory KBytes: 1.75; Program Memory KWords: 1; RAM: 64; Timers: 2 - 8-bit, 1 - 16-bit; DatasheetVersion: Rev. A; PackageVersion: C04-123C, 12/2012; PackageReference: DFN-MC8; PackageDescription: 8-Lead Plastic Dual Flat, 2 x 3 mm Body, 0.5 mm Pitch; Supplier 1: Digi-Key; Supplier Part Number 1: PIC12LF1501-E/MC-ND; Supplier 2: Farnell; Supplier Part Number 2: 2084987; Supplier 3: Newark; Supplier Part Number 3: 73T1184; Supplier 4: Mouser; Supplier Part Number 4: 579-PC12LF1501EMC; Memory Type: Flash; Packing: TUBE; Mounting Technology: Surface Mount; ComponentLink1Description: Datasheet; ComponentLink1URL: http://ww1.microchip.com/downloads/en/DeviceDoc/41615A.pdf; ComponentLink2Description: Package Specification; ComponentLink2URL: http://www.microchip.com/stellent/groups/techpub_sg/documents/packagingspec/en012702.pdf; ComponentLink3Description: URL Link1; ComponentLink3URL: Product URL:http://www.microchip.com/datasheet/PIC12F1501
footprint MCHP-DFN-MC8_V (SON, 8-Leads, Body 3x2mm, Pitch 0.5mm, Thermal Pad 1.45x1.75mm)
pins: 1 VDD (power) "Positive supply.", 2 RA5 (io), 3 RA4 (io), 4 RA3/~{MCLR}/VPP (in), 5 RA2 (io), 6 RA1/ICSPCLK (io), 7 RA0/ICSPDAT (io), 8 VSS (power) "Ground reference.", 9 EP

## PIC12LF1501-E/MF
designator U?
Flash, 8-Bit Microcontroller, 20 MHz, 5 I/O, -40 to 125 degC, 8-pin DFN (MF8), Tube; Manufacturer: Microchip; PartNumber: PIC12LF1501-E/MF; # of A/D Channels: 4; I/O Pins: 5; Internal Oscillator: 16 MHz, 31 kHz; Max. CPU Speed MHz: 20; Operation Voltage Range: 1.8V - 3.6V; Program Memory KBytes: 1.75; Program Memory KWords: 1; RAM: 64; Timers: 2 - 8-bit, 1 - 16-bit; DatasheetVersion: Rev. A; PackageVersion: C04-062C, 12/2012; PackageReference: DFN-MF8; PackageDescription: 8-Lead Plastic Dual Flat, No Lead Package, 3 x 3 mm Body, 0.65 mm Pitch; Supplier 1: Digi-Key; Supplier Part Number 1: PIC12LF1501-E/MF-ND; Supplier 2: Mouser; Supplier Part Number 2: 579-PIC12LF1501-E/MF; Memory Type: Flash; Packing: TUBE; Mounting Technology: Surface Mount; ComponentLink1Description: Datasheet; ComponentLink1URL: http://ww1.microchip.com/downloads/en/DeviceDoc/41615A.pdf; ComponentLink2Description: Package Specification; ComponentLink2URL: http://www.microchip.com/stellent/groups/techpub_sg/documents/packagingspec/en012702.pdf; ComponentLink3Description: URL Link1; ComponentLink3URL: Product URL:http://www.microchip.com/datasheet/PIC12F1501
footprint MCHP-DFN-MF8_V (SON, 8-Leads, Body 3x3mm, Pitch 0.65mm, Thermal Pad 2.4x1.55mm)
pins: 1 VDD (power) "Positive supply.", 2 RA5 (io), 3 RA4 (io), 4 RA3/~{MCLR}/VPP (in), 5 RA2 (io), 6 RA1/ICSPCLK (io), 7 RA0/ICSPDAT (io), 8 VSS (power) "Ground reference.", 9 EP

## PIC12LF1501-E/MS
designator U?
Flash, 8-Bit Microcontroller, 20 MHz, 5 I/O, -40 to 125 degC, 8-pin MSOP (MS8), Tube; Manufacturer: Microchip; PartNumber: PIC12LF1501-E/MS; # of A/D Channels: 4; I/O Pins: 5; Internal Oscillator: 16 MHz, 31 kHz; Max. CPU Speed MHz: 20; Operation Voltage Range: 1.8V - 3.6V; Program Memory KBytes: 1.75; Program Memory KWords: 1; RAM: 64; Timers: 2 - 8-bit, 1 - 16-bit; DatasheetVersion: Rev. A; PackageVersion: C04-111C, 12/2012; PackageReference: MSOP-MS8; PackageDescription: 8-Lead Plastic Micro Small Outline Package, 3 x 3 mm Body, 0.65 mm Pitch; Supplier 1: Digi-Key; Supplier Part Number 1: PIC12LF1501-E/MS-ND; Supplier 2: Farnell; Supplier Part Number 2: 2084988; Supplier 3: Newark; Supplier Part Number 3: 66T9116; Supplier 4: Mouser; Supplier Part Number 4: 579-PIC12LF1501-E/MS; Memory Type: Flash; Packing: TUBE; Mounting Technology: Surface Mount; ComponentLink1Description: Datasheet; ComponentLink1URL: http://ww1.microchip.com/downloads/en/DeviceDoc/41615A.pdf; ComponentLink2Description: Package Specification; ComponentLink2URL: http://www.microchip.com/stellent/groups/techpub_sg/documents/packagingspec/en012702.pdf; ComponentLink3Description: URL Link1; ComponentLink3URL: Product URL:http://www.microchip.com/datasheet/PIC12F1501
footprint MCHP-MSOP-MS8_N (SOP, 8-Leads, Body 3x3mm, Pitch 0.65mm, IPC Medium Density)
footprint MCHP-MSOP-MS8_L (SOP, 8-Leads, Body 3x3mm, Pitch 0.65mm, IPC High Density)
footprint MCHP-MSOP-MS8_M (SOP, 8-Leads, Body 3x3mm, Pitch 0.65mm, IPC Low Density)
pins: 1 VDD (power) "Positive supply.", 2 RA5 (io), 3 RA4 (io), 4 RA3/~{MCLR}/VPP (in), 5 RA2 (io), 6 RA1/ICSPCLK (io), 7 RA0/ICSPDAT (io), 8 VSS (power) "Ground reference."